# Altium schematic symbol library LAB03.SchLib: 12 symbols
Pins are listed as number, name and electrical type; pins without a type are passive.

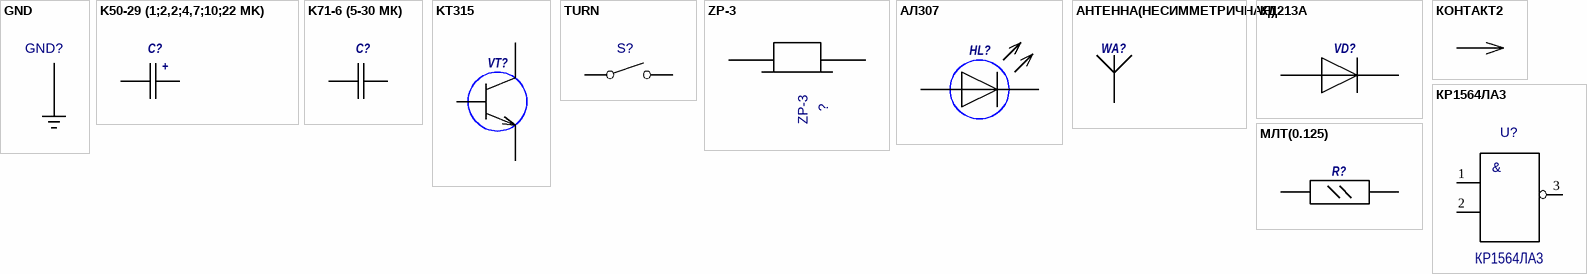
[diagram p0: symbols GND to МЛТ(0.125)]

## GND
designator GND?  (value not drawn)
Value: *
pins: 1 (power)

## K50-29 (1;2,2;4,7;10;22 MK)
designator C?  (value not drawn)
Value: {Value}
footprint К50-29 (17Х6)
pins: 1, 2
text: +

## K71-6 (5-30 МК)
designator C?  (value not drawn)
Value: {Value}
footprint K71-6 (10X4)
pins: 1, 2

## KT315
designator VT?  (value not drawn)
Value: {Value}
footprint КT315
pins: 1, 2, 3

## TURN
designator S?  (value not drawn)
Value: *
footprint TRN
pins: 1, 2

## ZP-3
designator ?
Value: *
footprint ЗП-3
pins: 1, 2

## АЛ307
designator HL?  (value not drawn)
Value: {Value}
footprint АЛ307
pins: 1, 2

## АНТЕННА(НЕСИММЕТРИЧНАЯ)
designator WA?  (value not drawn)
Value: {Value}
footprint АНТЕННА
pins: 1

## КД213А
designator VD?  (value not drawn)
Value: {Value}
footprint КД213
pins: 1, 2

## КОНТАКТ2
designator PWR?  (value not drawn)
Value: {Value}
pins: 1 КОНТАКТ2 (power)

## КР1564ЛА3
designator U?
Value: *
pins: 1, 2, 3
text: &

## МЛТ(0.125)
designator R?  (value not drawn)
Value: {Value}
footprint МЛТ(0.125)
pins: 1, 2